# Altium footprint library PTC 24V 1A Fuse.PcbLib: 2 footprints
Each footprint in its own frame and in the unit in brackets; x right, y up, seen from the top. Pads: shape width x height; smd on the part's side, far side on the other; paste and mask are expansions set on the pad; w line width, h text height; cw(c..) or ccw(c..) is an arc to the next point about the centre after c.
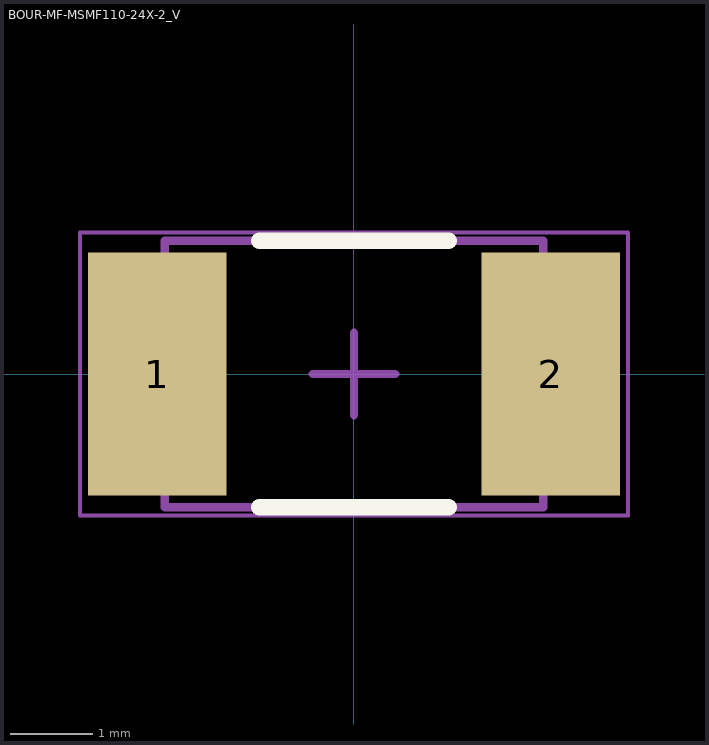
[diagram p0: the footprints below, top view; thin cyan lines are the x and y axes]

## BOUR-MF-MSMF110-24X-2_V [mm] "Chip Fuse, 2-Leads, Body 4.6x3.24mm"
height 1.6
pads (2):
  rect 1.68x2.95 smd: 1(-2.39,0) 2(2.39,0)
Top Overlay:
  lines w0.2: -1.15,-1.62 1.15,-1.62 ; -1.15,1.62 1.15,1.62
Mechanical 13:
  lines w0.1: -2.3,-1.62 2.3,-1.62 2.3,1.62 -2.3,1.62 -2.3,-1.62
Mechanical 15:
  lines w0.05: -3.33,-1.72 -3.33,1.72 3.33,1.72 3.33,-1.72 -3.33,-1.72
  lines w0.1: -0.5,0 0.5,0 ; 0,-0.5 0,0.5
3D body "mf-msmf110_24x.stp": height 1.15, standoff 0, extent -2.3,-1.62 2.3,1.62

## PCBComponent_1 [mm]